# EAGLE library part TRANS_DUAL_NFET_HALF-BR (library PCB_KioskMB_r3.3-05)
Dual n-chan MOSFETs half-bridge config, i.e. TI NexFET
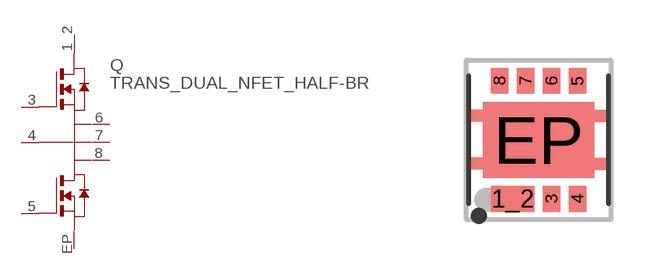
[diagram p3: symbol with the pads of SON8_3.3X3.3_TI; footprint SON8_3.3X3.3_TI]

Designator prefix Q

## TRANS_DUAL_NFET_HALF-BRQ3D  [SON8_3.3X3.3_TI]
1_2  VIN  pas
3  TG  pas
4  TGR  pas
5  BG  pas
6  VSW  pas
7  VSW  pas
8  VSW  pas
EP  PGND  pas

## Footprint SON8_3.3X3.3_TI (pad centres in mm)
SON 8-pin FET 3.3 x 3.3 mm with center pad, TI Q3D package
smd 1.09 x 0.65: 1_2 -0.65,-1.475
smd 0.44 x 0.65: 3 0.325,-1.475; 4 0.975,-1.475; 5 0.975,1.475; 6 0.325,1.475; 7 -0.325,1.475; 8 -0.975,1.475
smd 2.8 x 1.9: EP 0,0